# Altium integrated library PCB_Project.IntLib: 26 symbols
Pins are listed as number, name and electrical type; pins without a type are passive.

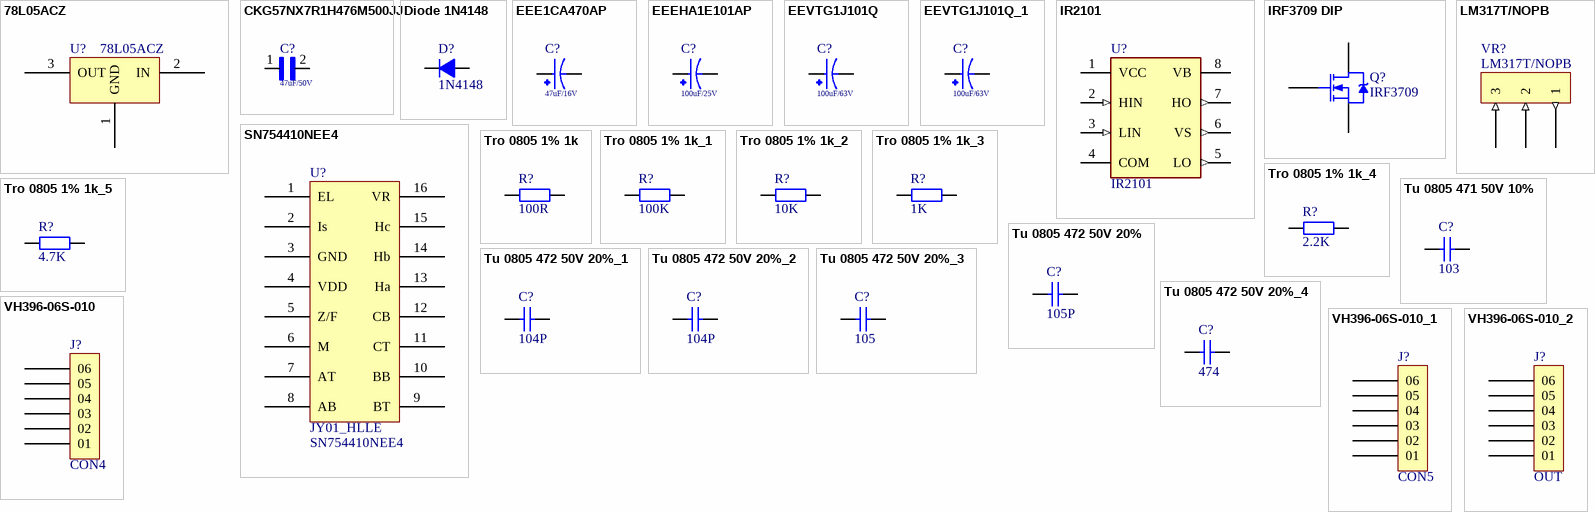
[diagram p0: symbols 78L05ACZ to VH396-06S-010_2]

## 78L05ACZ
designator U?
Linear Voltage Regulator IC Positive Fixed 1 Output 100mA TO-92-3; MF: STMicroelectronics; SnapEDA_Link: https://www.snapeda.com/parts/78L05ACZ/STMicroelectronics/view-part/?ref=snap; Package: TO-92 ON; MP: 78L05ACZ; Check_prices: https://www.snapeda.com/parts/78L05ACZ/STMicroelectronics/view-part/?ref=eda; Purchase-URL: https://pricing.snapeda.com/search/part/78L05ACZ/?ref=eda; Price: None; Value: *; Availability: In Stock
footprint TO-92
pins: 1 GND, 2 IN, 3 OUT

## CKG57NX7R1H476M500JJ
designator C?, comment 47uF/50V
MF: TDK; MP: CKG57NX7R1H476M500JJ; Value: *; Package: 6050 TDK; Purchase-URL: https://pricing.snapeda.com/search/part/CKG57NX7R1H476M500JJ/?ref=eda; Check_prices: https://www.snapeda.com/parts/CKG57NX7R1H476M500JJ/TDK/view-part/?ref=eda; Price: None; Availability: In Stock; SnapEDA_Link: https://www.snapeda.com/parts/CKG57NX7R1H476M500JJ/TDK/view-part/?ref=snap
footprint CAPC6050X550N
pins: 1, 2

## Diode 1N4148
designator D?, comment 1N4148
Cắm; Ten_Linh_Kien: Diode 1N4148 DO35 450mA 100V ( 1N4148 DIP); Don_Vi: Con; Ma_Hang: MH001065; Ghi Chu: *; Kieu_Chan: *; Chung_Loai: Cắm
footprint DIODE 0.5A (Diode muoi, xung)
pins: 1 A, 2 K

## EEE1CA470AP
designator C?, comment 47uF/16V
47ÂµF 16V Aluminum Electrolytic Capacitors Radial, Can - SMD 2000 Hrs @ 85Â°C; MP: EEE-1CA470AP; MF: Panasonic; Availability: In Stock; Check_prices: https://www.snapeda.com/parts/EEE-1CA470AP/Panasonic/view-part/?ref=eda; SnapEDA_Link: https://www.snapeda.com/parts/EEE-1CA470AP/Panasonic/view-part/?ref=snap; Price: None; Value: *; Purchase-URL: https://pricing.snapeda.com/search/part/EEE-1CA470AP/?ref=eda; Package: RADIAL-2 Panasonic
footprint CAP_EEE1CA470AP
pins: 1, 2

## EEEHA1E101AP
designator C?, comment 100uF/25V
100ÂµF 25V Aluminum Electrolytic Capacitors Radial, Can - SMD 1000 Hrs @ 105Â°C; MF: Panasonic; MP: EEE-HA1E101AP; SnapEDA_Link: https://www.snapeda.com/parts/EEE-HA1E101AP/Panasonic/view-part/?ref=snap; Availability: In Stock; Purchase-URL: https://pricing.snapeda.com/search/part/EEE-HA1E101AP/?ref=eda; Check_prices: https://www.snapeda.com/parts/EEE-HA1E101AP/Panasonic/view-part/?ref=eda; Value: *; Package: RADIAL-2 Panasonic; Price: None
footprint CAP_EEEHA1E101AP
pins: 1, 2

## EEVTG1J101Q
designator C?, comment 100uF/63V
100ÂµF 63V Aluminum Electrolytic Capacitors Radial, Can - SMD 260mOhm @ 100kHz 2000 Hrs @ 125Â°C; MP: EEVTG1J101Q; MF: Panasonic; Purchase-URL: https://pricing.snapeda.com/search/part/EEVTG1J101Q/?ref=eda; Package: RADIAL-2 Panasonic; Value: *; SnapEDA_Link: https://www.snapeda.com/parts/EEVTG1J101Q/Panasonic/view-part/?ref=snap; Availability: In Stock; Price: None; Check_prices: https://www.snapeda.com/parts/EEVTG1J101Q/Panasonic/view-part/?ref=eda
footprint CAP_EEVTG1J101Q
pins: 1, 2

## EEVTG1J101Q_1
designator C?, comment 100uF/63V
100ÂµF 63V Aluminum Electrolytic Capacitors Radial, Can - SMD 260mOhm @ 100kHz 2000 Hrs @ 125Â°C; MP: EEVTG1J101Q; MF: Panasonic; Purchase-URL: https://pricing.snapeda.com/search/part/EEVTG1J101Q/?ref=eda; Package: RADIAL-2 Panasonic; Value: *; SnapEDA_Link: https://www.snapeda.com/parts/EEVTG1J101Q/Panasonic/view-part/?ref=snap; Availability: In Stock; Price: None; Check_prices: https://www.snapeda.com/parts/EEVTG1J101Q/Panasonic/view-part/?ref=eda
footprint CAP_EEVTG1J101Q
pins: 1, 2

## IR2101
designator U?
Half-Bridge Gate Driver IC Non-Inverting 8-PDIP; MF: Infineon; Purchase-URL: https://pricing.snapeda.com/search/part/IR2101/?ref=eda; Package: DIP-8 International Rectifier; Check_prices: https://www.snapeda.com/parts/IR2101/Infineon+Technologies/view-part/?ref=eda; Value: *; SnapEDA_Link: https://www.snapeda.com/parts/IR2101/Infineon+Technologies/view-part/?ref=snap; MP: IR2101; Digi-Key_Part_Number: IR2101-ND
footprint DIL08
pins: 1 VCC (power), 2 HIN (in), 3 LIN (in), 4 COM (power), 5 LO (out), 6 VS (out), 7 HO (out), 8 VB (power)

## IRF3709 DIP
designator Q?, comment IRF3709
N-Channel Power MOSFET
footprint TO220 (TO-220)
pins: 1 G, 2 D, 3 S

## LM317T/NOPB
designator VR?
Linear Voltage Regulator IC Positive Adjustable 1 Output 1.5A TO-220-3; MF: STMicroelectronics; MP: LM317T; SnapEDA_Link: https://www.snapeda.com/parts/LM317T/STMicroelectronics/view-part/?ref=snap; Package: TO-220-3 STMicroelectronics; Value: *; Check_prices: https://www.snapeda.com/parts/LM317T/STMicroelectronics/view-part/?ref=eda
footprint TO254P1054X470X1955-3; pin to pad ADJ>1 Input>3 Output>2
pins: ADJ 1 (out), Input 3 (in), Output 2 (in)

## SN754410NEE4
designator U?
Quadruple Half-H Drivers 16-PDIP -40 to 85; MF: Texas Instruments; Availability: In Stock; SnapEDA_Link: https://www.snapeda.com/parts/SN754410NEE4/Texas+Instruments/view-part/?ref=snap; MP: SN754410NEE4; Value: *; Price: None; Package: PDIP-16 Texas Instruments; Purchase-URL: https://pricing.snapeda.com/search/part/SN754410NEE4/?ref=eda; Check_prices: https://www.snapeda.com/parts/SN754410NEE4/Texas+Instruments/view-part/?ref=eda
footprint DIP762W45P254L1980H508Q16
pins: 1 EL, 2 Is, 3 GND, 4 VDD, 5 Z/F, 6 M, 7 AT, 8 AB, 9 BT, 10 BB, 11 CT, 12 CB, 13 Ha, 14 Hb, 15 Hc, 16 VR
text: JY01_HLLE

## Tro 0805 1% 1k
designator R?, comment 100R
Dán; Don_Vi: Con; So_Chan: 2; Ten_Linh_Kien: Trở 0805 1% 1k; Ma_Hang: MH005468; Chung_Loai: Dán; Kieu_Chan: *
footprint tro smd 0805
pins: 1, 2

## Tro 0805 1% 1k_1
designator R?, comment 100K
Dán; Don_Vi: Con; So_Chan: 2; Ten_Linh_Kien: Trở 0805 1% 1k; Ma_Hang: MH005468; Chung_Loai: Dán; Kieu_Chan: *
footprint tro smd 0805
pins: 1, 2

## Tro 0805 1% 1k_2
designator R?, comment 10K
Dán; Don_Vi: Con; So_Chan: 2; Ten_Linh_Kien: Trở 0805 1% 1k; Ma_Hang: MH005468; Chung_Loai: Dán; Kieu_Chan: *
footprint tro smd 0805
pins: 1, 2

## Tro 0805 1% 1k_3
designator R?, comment 1K
Dán; Don_Vi: Con; So_Chan: 2; Ten_Linh_Kien: Trở 0805 1% 1k; Ma_Hang: MH005468; Chung_Loai: Dán; Kieu_Chan: *
footprint tro smd 0805
pins: 1, 2

## Tro 0805 1% 1k_4
designator R?, comment 2.2K
Dán; Don_Vi: Con; So_Chan: 2; Ten_Linh_Kien: Trở 0805 1% 1k; Ma_Hang: MH005468; Chung_Loai: Dán; Kieu_Chan: *
footprint tro smd 0805
pins: 1, 2

## Tro 0805 1% 1k_5
designator R?, comment 4.7K
Dán; Don_Vi: Con; So_Chan: 2; Ten_Linh_Kien: Trở 0805 1% 1k; Ma_Hang: MH005468; Chung_Loai: Dán; Kieu_Chan: *
footprint tro smd 0805
pins: 1, 2

## Tu 0805 471 50V 10%
designator C?, comment 103
Dán; Don_Vi: Con; So_Chan: 2; Ten_Linh_Kien: Tụ 0805 471-470 10% 50V; Ma_Hang: MH004564; Chung_Loai: Dán; Kieu_Chan: *
footprint tu 0805 (Compoment SMD 80x50mil)
pins: 1, 2

## Tu 0805 472 50V 20%
designator C?, comment 105P
Dán; Don_Vi: Con; So_Chan: 2; Ten_Linh_Kien: Tụ 0805 472-4.7nF 20% 50V; Ma_Hang: MH004363; Chung_Loai: Dán; Kieu_Chan: *
footprint tu 0805 (Compoment SMD 80x50mil)
pins: 1, 2

## Tu 0805 472 50V 20%_1
designator C?, comment 104P
Dán; Don_Vi: Con; So_Chan: 2; Ten_Linh_Kien: Tụ 0805 472-4.7nF 20% 50V; Ma_Hang: MH004363; Chung_Loai: Dán; Kieu_Chan: *
footprint tu 0805 (Compoment SMD 80x50mil)
pins: 1, 2

## Tu 0805 472 50V 20%_2
designator C?, comment 104P
Tu 0805 472 50V 20% / SMD /; Chung_Loai: Dán; Don_Vi: Con; So_Chan: 2; Ten_Linh_Kien: Tụ 0805 472-4.7nF 20% 50V; Ma_Hang: MH004363; Kieu_Chan: *
footprint tu 0805 (Compoment SMD 80x50mil)
pins: 1, 2

## Tu 0805 472 50V 20%_3
designator C?, comment 105
Dán; Don_Vi: Con; So_Chan: 2; Ten_Linh_Kien: Tụ 0805 472-4.7nF 20% 50V; Ma_Hang: MH004363; Chung_Loai: Dán; Kieu_Chan: *
footprint tu 0805 (Compoment SMD 80x50mil)
pins: 1, 2

## Tu 0805 472 50V 20%_4
designator C?, comment 474
Dán; Don_Vi: Con; So_Chan: 2; Ten_Linh_Kien: Tụ 0805 472-4.7nF 20% 50V; Ma_Hang: MH004363; Chung_Loai: Dán; Kieu_Chan: *
footprint tu 0805 (Compoment SMD 80x50mil)
pins: 1, 2

## VH396-06S-010
designator J?, comment CON4
VH396 - Valcon 3.96mm 5A Wire-to-Board Straight Locking Power Connector; MP: VH396-06S-010; Value: *; MF: Valcon; Price: None; Package: None; Check_prices: https://www.snapeda.com/parts/VH396-06S-010/Valcon/view-part/?ref=eda; Availability: In Stock; SnapEDA_Link: https://www.snapeda.com/parts/VH396-06S-010/Valcon/view-part/?ref=snap; Purchase-URL: https://pricing.snapeda.com/search/part/VH396-06S-010/?ref=eda
footprint VALCON_VH396-06S-010
pins: 01, 02, 03, 04, 05, 06

## VH396-06S-010_1
designator J?, comment CON5
VH396 - Valcon 3.96mm 5A Wire-to-Board Straight Locking Power Connector; MP: VH396-06S-010; Value: *; MF: Valcon; Price: None; Package: None; Check_prices: https://www.snapeda.com/parts/VH396-06S-010/Valcon/view-part/?ref=eda; Availability: In Stock; SnapEDA_Link: https://www.snapeda.com/parts/VH396-06S-010/Valcon/view-part/?ref=snap; Purchase-URL: https://pricing.snapeda.com/search/part/VH396-06S-010/?ref=eda
footprint VALCON_VH396-06S-010
pins: 01, 02, 03, 04, 05, 06

## VH396-06S-010_2
designator J?, comment OUT
VH396 - Valcon 3.96mm 5A Wire-to-Board Straight Locking Power Connector; MP: VH396-06S-010; Value: *; MF: Valcon; Price: None; Package: None; Check_prices: https://www.snapeda.com/parts/VH396-06S-010/Valcon/view-part/?ref=eda; Availability: In Stock; SnapEDA_Link: https://www.snapeda.com/parts/VH396-06S-010/Valcon/view-part/?ref=snap; Purchase-URL: https://pricing.snapeda.com/search/part/VH396-06S-010/?ref=eda
footprint VALCON_VH396-06S-010
pins: 01, 02, 03, 04, 05, 06